# Altium integrated library TI_Logic_Flip-Flop,Latch,Register.IntLib: 2598 symbols (part 70 of 122)
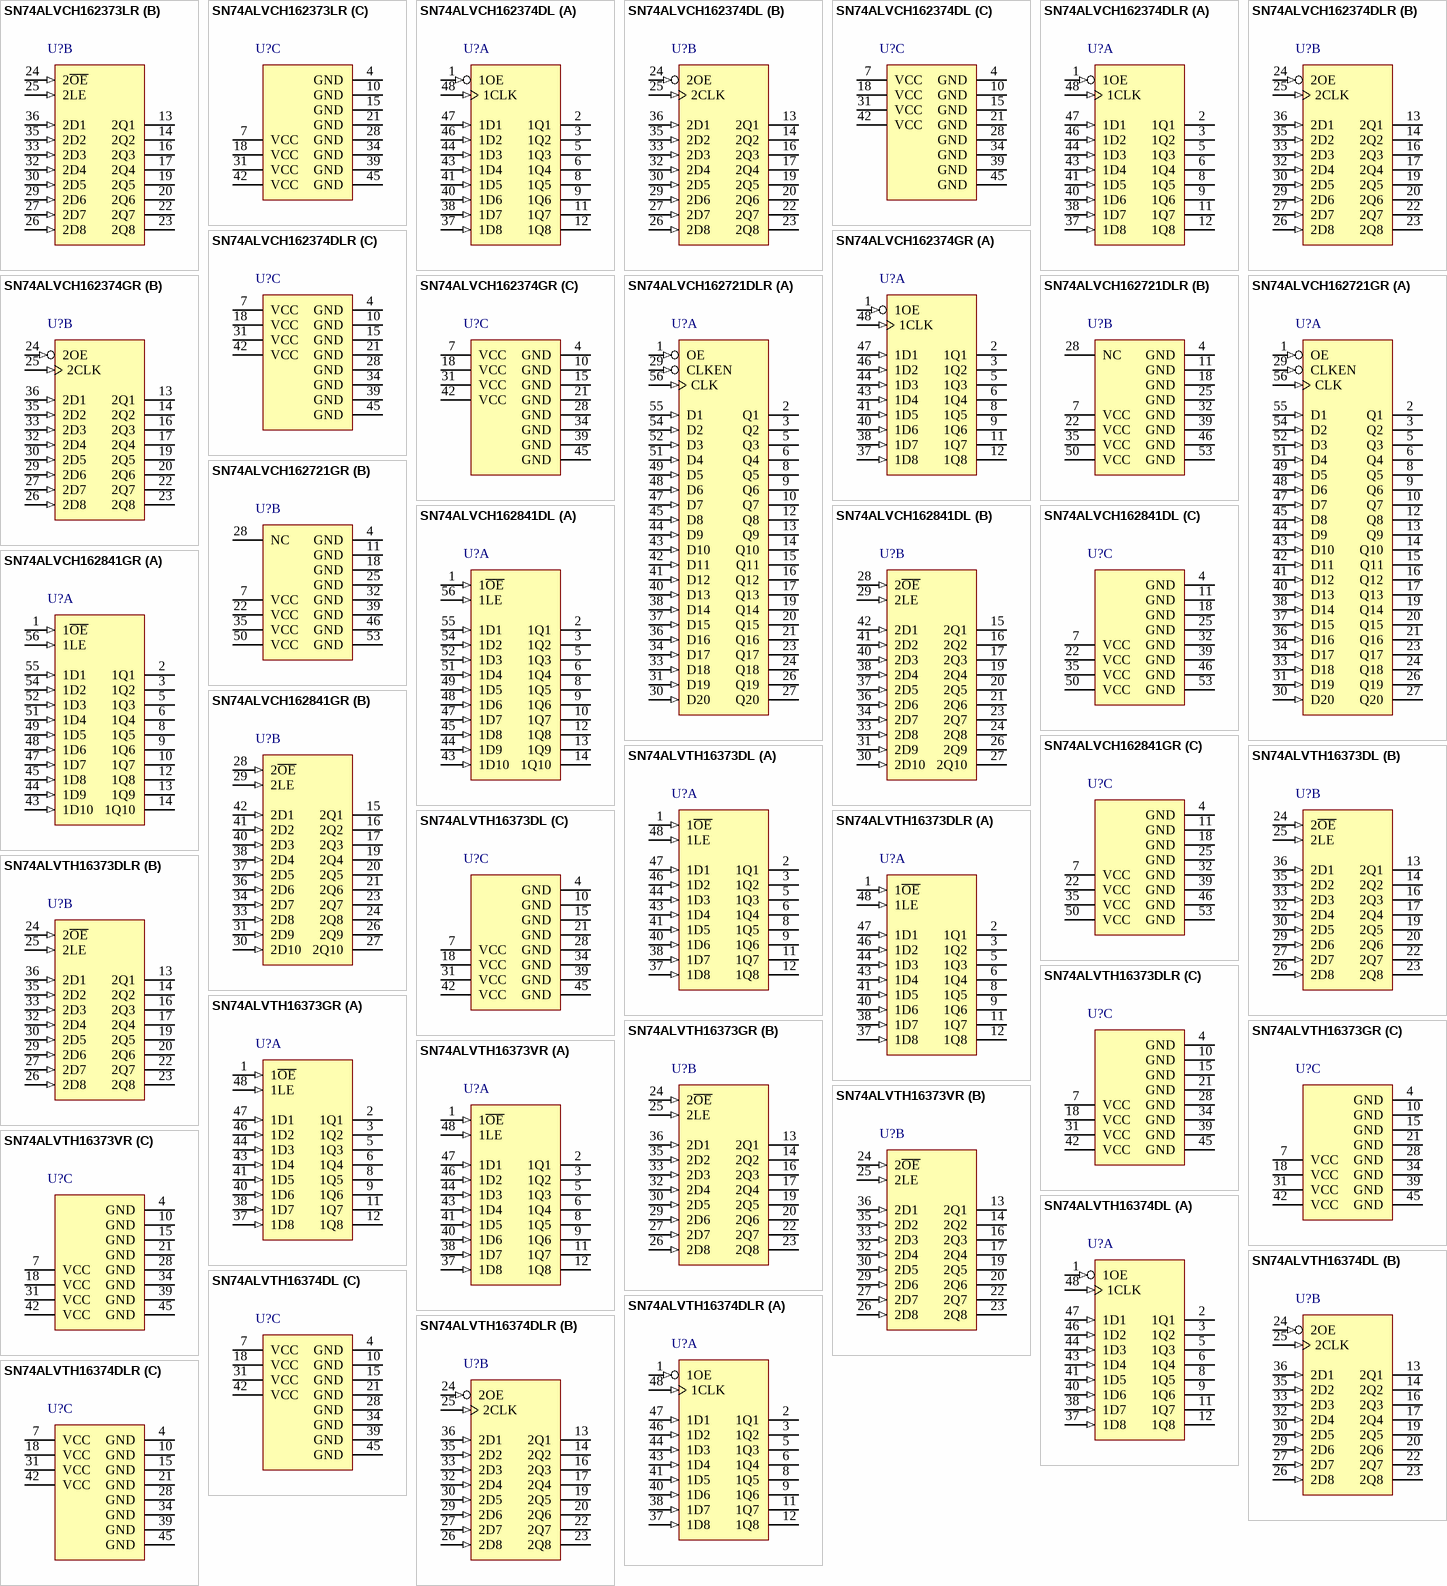
[diagram p208: symbols SN74ALVCH162373LR to SN74ALVTH16374DLR]

## SN74ALVTH16373VR
designator U?
2.5-V/3.3-V 16-Bit Transparent D-Type Latches With 3-State Outputs, DGV0048A, LARGE T&R; Generic Part Number: SN74ALVTH16373; Manufacturer: Texas Instruments; PartNumber: SN74ALVTH16373VR; VCC(Min)(V): 2.3; VCC(Max)(V): 3.6; Output Type: TTL; ICC @ Nom Voltage(Max)(mA): 5; Bits(#): 16; F @ Nom Voltage(Max)(Mhz): 250; Rating: Catalog; Technology Family: ALVT; Voltage(Nom)(V): 2.5,3.3; Schmitt Trigger: No; Output Drive (IOL/IOH)(Max)(mA): 64/-32; Output Logic: Non-inverted; 3-State Output: Yes; tpd @ Nom Voltage(Max)(ns): 3.8,3.3; DatasheetVersion: SCES067F; PackageReference: DGV0048A; Supplier 1: Digi-Key; Supplier Part Number 1: 296-6307-2-ND; Supplier 2: Digi-Key; Supplier Part Number 2: 296-6307-1-ND; Supplier 3: Digi-Key; Supplier Part Number 3: 296-6307-6-ND; Supplier 4: Newark; Supplier Part Number 4: 76C2570; Supplier 5: Mouser; Supplier Part Number 5: 595-SN74ALVTH16373VR; Input Type: TTL; Operating Temperature Range(C): -40 to 85; Code_JEDEC: MO-153; ComponentLink1Description: Manufacturer URL; ComponentLink1URL: http://www.ti.com/; ComponentLink2Description: Datasheet; ComponentLink2URL: http://www.ti.com/lit/ds/symlink/sn74alvth16373.pdf; ComponentLink3Description: Package Specification; ComponentLink3URL: http://www.ti.com/lit/ml/mpds006c/mpds006c.pdf
footprint DGV0048A_N (SOP, 48-Leads, Body 4.5x9.8mm, Pitch 0.4mm, IPC Medium Density)
footprint DGV0048A_M (SOP, 48-Leads, Body 4.5x9.8mm, Pitch 0.4mm, IPC Low Density)
footprint DGV0048A_L (SOP, 48-Leads, Body 4.5x9.8mm, Pitch 0.4mm, IPC High Density)
part A pins: 1 1~{OE} (in) "Output Enable 1", 2 1Q1 (hiz) "1Q1 Output", 3 1Q2 (hiz) "1Q2 Output", 5 1Q3 (hiz) "1Q3 Output", 6 1Q4 (hiz) "1Q4 Output", 8 1Q5 (hiz) "1Q5 Output", 9 1Q6 (hiz) "1Q6 Output", 11 1Q7 (hiz) "1Q7 Output", 12 1Q8 (hiz) "1Q8 Output", 37 1D8 (in) "1D8 Input", 38 1D7 (in) "1D7 Input", 40 1D6 (in) "1D6 Input", 41 1D5 (in) "1D5 Input", 43 1D4 (in) "1D4 Input", 44 1D3 (in) "1D3 Input", 46 1D2 (in) "1D2 Input", 47 1D1 (in) "1D1 Input", 48 1LE (in) "Latch Enable 1"
part B pins: 13 2Q1 (hiz) "2Q1 Output", 14 2Q2 (hiz) "2Q2 Output", 16 2Q3 (hiz) "2Q3 Output", 17 2Q4 (hiz) "2Q4 Output", 19 2Q5 (hiz) "Output", 20 2Q6 (hiz) "2Q6 Output", 22 2Q7 (hiz) "2Q7 Output", 23 2Q8 (hiz) "2Q8 Output", 24 2~{OE} (in) "Output Enable 2", 25 2LE (in) "2LE Input", 26 2D8 (in) "2D8 Input", 27 2D7 (in) "2D7 Input", 29 2D6 (in) "2D6 Input", 30 2D5 (in) "2D5 Input", 32 2D4 (in) "2D4 Input", 33 2D3 (in) "2D3 Input", 35 2D2 (in) "2D2 Input", 36 2D1 (in) "2D1 Input"
part C pins: 4 GND (power) "Ground Pin", 7 VCC (power) "Power Pin", 10 GND (power) "Ground Pin", 15 GND (power) "Ground Pin", 18 VCC (power) "Power Pin", 21 GND (power) "Ground Pin", 28 GND (power) "Ground Pin", 31 VCC (power) "Power Pin", 34 GND (power) "Ground Pin", 39 GND (power) "Ground Pin", 42 VCC (power) "Power Pin", 45 GND (power) "Ground Pin"

## SN74ALVTH16374DL
designator U?
2.5-V/3.3-V 16-Bit Edge-Triggered D-Type Flip-Flops With 3-State Outputs, DL0048A, TUBE; Generic Part Number: SN74ALVTH16374; Manufacturer: Texas Instruments; PartNumber: SN74ALVTH16374DL; VCC(Min)(V): 2.3; VCC(Max)(V): 3.6; Output Type: TTL; ICC @ Nom Voltage(Max)(mA): 5; Bits(#): 16; F @ Nom Voltage(Max)(Mhz): 250; Rating: Catalog; Technology Family: ALVT; Voltage(Nom)(V): 2.5,3.3; Schmitt Trigger: No; Output Drive (IOL/IOH)(Max)(mA): 64/-32; Output Logic: Non-inverted; 3-State Output: Yes; tpd @ Nom Voltage(Max)(ns): 3.8,3.2; DatasheetVersion: SCES068G; PackageReference: DL0048A; Supplier 1: Digi-Key; Supplier Part Number 1: SN74ALVTH16374DL-ND; Supplier 2: Farnell; Supplier Part Number 2: 1741106; Supplier 3: Mouser; Supplier Part Number 3: 595-SN74ALVTH16374DL; Input Type: TTL; Operating Temperature Range(C): -40 to 85; Code_JEDEC: MO-118; ComponentLink1Description: Manufacturer URL; ComponentLink1URL: http://www.ti.com/; ComponentLink2Description: Datasheet; ComponentLink2URL: http://www.ti.com/lit/ds/symlink/sn74alvth16374.pdf; ComponentLink3Description: Package Specification; ComponentLink3URL: http://www.ti.com/lit/ml/mpds490/mpds490.pdf
footprint DL0048A_N (SOP, 48-Leads, Body 7.6x16mm, Pitch 0.635mm, IPC Medium Density)
footprint DL0048A_M (SOP, 48-Leads, Body 7.6x16mm, Pitch 0.635mm, IPC Low Density)
footprint DL0048A_L (SOP, 48-Leads, Body 7.6x16mm, Pitch 0.635mm, IPC High Density)
part A pins: 1 1OE (in), 2 1Q1 (hiz), 3 1Q2 (hiz), 5 1Q3 (hiz), 6 1Q4 (hiz), 8 1Q5 (hiz), 9 1Q6 (hiz), 11 1Q7 (hiz), 12 1Q8 (hiz), 37 1D8 (in), 38 1D7 (in), 40 1D6 (in), 41 1D5 (in), 43 1D4 (in), 44 1D3 (in), 46 1D2 (in), 47 1D1 (in), 48 1CLK (in)
part B pins: 13 2Q1 (hiz), 14 2Q2 (hiz), 16 2Q3 (hiz), 17 2Q4 (hiz), 19 2Q5 (hiz), 20 2Q6 (hiz), 22 2Q7 (hiz), 23 2Q8 (hiz), 24 2OE (in), 25 2CLK (in), 26 2D8 (in), 27 2D7 (in), 29 2D6 (in), 30 2D5 (in), 32 2D4 (in), 33 2D3 (in), 35 2D2 (in), 36 2D1 (in)
part C pins: 4 GND (power), 7 VCC (power), 10 GND (power), 15 GND (power), 18 VCC (power), 21 GND (power), 28 GND (power), 31 VCC (power), 34 GND (power), 39 GND (power), 42 VCC (power), 45 GND (power)

## SN74ALVTH16374DLR
designator U?
2.5-V/3.3-V 16-Bit Edge-Triggered D-Type Flip-Flops With 3-State Outputs, DL0048A, LARGE T&R; Generic Part Number: SN74ALVTH16374; Manufacturer: Texas Instruments; PartNumber: SN74ALVTH16374DLR; VCC(Min)(V): 2.3; VCC(Max)(V): 3.6; Output Type: TTL; ICC @ Nom Voltage(Max)(mA): 5; Bits(#): 16; F @ Nom Voltage(Max)(Mhz): 250; Rating: Catalog; Technology Family: ALVT; Voltage(Nom)(V): 2.5,3.3; Schmitt Trigger: No; Output Drive (IOL/IOH)(Max)(mA): 64/-32; Output Logic: Non-inverted; 3-State Output: Yes; tpd @ Nom Voltage(Max)(ns): 3.8,3.2; DatasheetVersion: SCES068G; PackageReference: DL0048A; Supplier 1: Digi-Key; Supplier Part Number 1: 296-6308-2-ND; Supplier 2: Digi-Key; Supplier Part Number 2: 296-6308-1-ND; Supplier 3: Digi-Key; Supplier Part Number 3: 296-6308-6-ND; Supplier 4: Mouser; Supplier Part Number 4: 595-SNALVTH16374DLR; Input Type: TTL; Operating Temperature Range(C): -40 to 85; Code_JEDEC: MO-118; ComponentLink1Description: Manufacturer URL; ComponentLink1URL: http://www.ti.com/; ComponentLink2Description: Datasheet; ComponentLink2URL: http://www.ti.com/lit/ds/symlink/sn74alvth16374.pdf; ComponentLink3Description: Package Specification; ComponentLink3URL: http://www.ti.com/lit/ml/mpds490/mpds490.pdf
footprint DL0048A_N (SOP, 48-Leads, Body 7.6x16mm, Pitch 0.635mm, IPC Medium Density)
footprint DL0048A_M (SOP, 48-Leads, Body 7.6x16mm, Pitch 0.635mm, IPC Low Density)
footprint DL0048A_L (SOP, 48-Leads, Body 7.6x16mm, Pitch 0.635mm, IPC High Density)
part A pins: 1 1OE (in), 2 1Q1 (hiz), 3 1Q2 (hiz), 5 1Q3 (hiz), 6 1Q4 (hiz), 8 1Q5 (hiz), 9 1Q6 (hiz), 11 1Q7 (hiz), 12 1Q8 (hiz), 37 1D8 (in), 38 1D7 (in), 40 1D6 (in), 41 1D5 (in), 43 1D4 (in), 44 1D3 (in), 46 1D2 (in), 47 1D1 (in), 48 1CLK (in)
part B pins: 13 2Q1 (hiz), 14 2Q2 (hiz), 16 2Q3 (hiz), 17 2Q4 (hiz), 19 2Q5 (hiz), 20 2Q6 (hiz), 22 2Q7 (hiz), 23 2Q8 (hiz), 24 2OE (in), 25 2CLK (in), 26 2D8 (in), 27 2D7 (in), 29 2D6 (in), 30 2D5 (in), 32 2D4 (in), 33 2D3 (in), 35 2D2 (in), 36 2D1 (in)
part C pins: 4 GND (power), 7 VCC (power), 10 GND (power), 15 GND (power), 18 VCC (power), 21 GND (power), 28 GND (power), 31 VCC (power), 34 GND (power), 39 GND (power), 42 VCC (power), 45 GND (power)

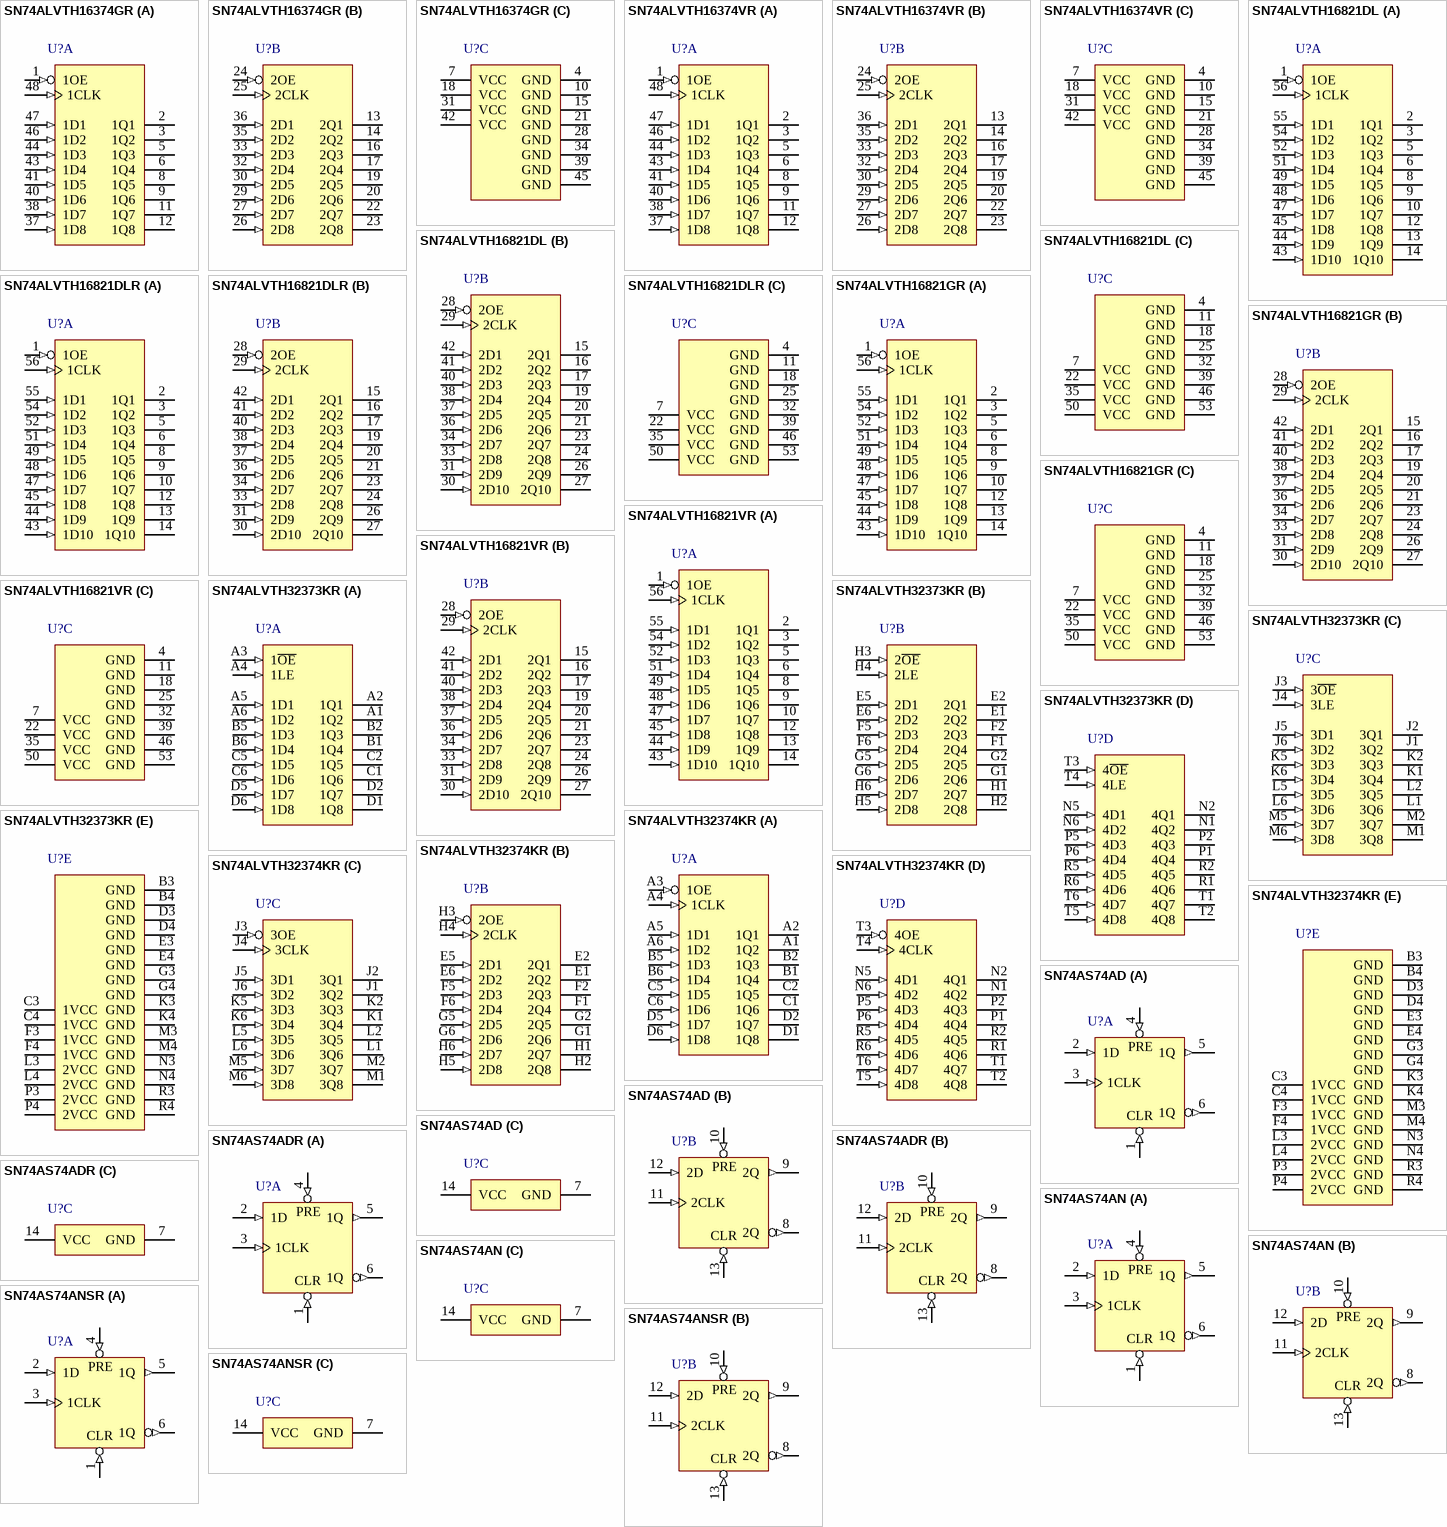
[diagram p81: symbols SN74ALVTH16374GR to SN74AS74ANSR]

## SN74ALVTH16374GR
designator U?
2.5-V/3.3-V 16-Bit Edge-Triggered D-Type Flip-Flops With 3-State Outputs, DGG0048A, LARGE T&R; Generic Part Number: SN74ALVTH16374; Manufacturer: Texas Instruments; PartNumber: SN74ALVTH16374GR; VCC(Min)(V): 2.3; VCC(Max)(V): 3.6; Output Type: TTL; ICC @ Nom Voltage(Max)(mA): 5; Bits(#): 16; F @ Nom Voltage(Max)(Mhz): 250; Rating: Catalog; Technology Family: ALVT; Voltage(Nom)(V): 2.5,3.3; Schmitt Trigger: No; Output Drive (IOL/IOH)(Max)(mA): 64/-32; Output Logic: Non-inverted; 3-State Output: Yes; tpd @ Nom Voltage(Max)(ns): 3.8,3.2; DatasheetVersion: SCES068G; PackageReference: DGG0048A; Supplier 1: Digi-Key; Supplier Part Number 1: 296-6309-2-ND; Supplier 2: Digi-Key; Supplier Part Number 2: 296-6309-1-ND; Supplier 3: Digi-Key; Supplier Part Number 3: 296-6309-6-ND; Supplier 4: Mouser; Supplier Part Number 4: 595-SN74ALVTH16374GR; Input Type: TTL; Operating Temperature Range(C): -40 to 85; Code_JEDEC: MO-153; ComponentLink1Description: Manufacturer URL; ComponentLink1URL: http://www.ti.com/; ComponentLink2Description: Datasheet; ComponentLink2URL: http://www.ti.com/lit/ds/symlink/sn74alvth16374.pdf; ComponentLink3Description: Package Specification; ComponentLink3URL: http://www.ti.com/lit/ml/mtss003d/mtss003d.pdf
footprint DGG0048A_N (TSSOP, 48-Leads, Body 12.6x6.2mm, Pitch 0.5mm, IPC Medium Density)
footprint DGG0048A_M (TSSOP, 48-Leads, Body 12.6x6.2mm, Pitch 0.5mm, IPC Low Density)
footprint DGG0048A_L (TSSOP, 48-Leads, Body 12.6x6.2mm, Pitch 0.5mm, IPC High Density)
part A pins: 1 1OE (in), 2 1Q1 (hiz), 3 1Q2 (hiz), 5 1Q3 (hiz), 6 1Q4 (hiz), 8 1Q5 (hiz), 9 1Q6 (hiz), 11 1Q7 (hiz), 12 1Q8 (hiz), 37 1D8 (in), 38 1D7 (in), 40 1D6 (in), 41 1D5 (in), 43 1D4 (in), 44 1D3 (in), 46 1D2 (in), 47 1D1 (in), 48 1CLK (in)
part B pins: 13 2Q1 (hiz), 14 2Q2 (hiz), 16 2Q3 (hiz), 17 2Q4 (hiz), 19 2Q5 (hiz), 20 2Q6 (hiz), 22 2Q7 (hiz), 23 2Q8 (hiz), 24 2OE (in), 25 2CLK (in), 26 2D8 (in), 27 2D7 (in), 29 2D6 (in), 30 2D5 (in), 32 2D4 (in), 33 2D3 (in), 35 2D2 (in), 36 2D1 (in)
part C pins: 4 GND (power), 7 VCC (power), 10 GND (power), 15 GND (power), 18 VCC (power), 21 GND (power), 28 GND (power), 31 VCC (power), 34 GND (power), 39 GND (power), 42 VCC (power), 45 GND (power)

## SN74ALVTH16374VR
designator U?
2.5-V/3.3-V 16-Bit Edge-Triggered D-Type Flip-Flops With 3-State Outputs, DGV0048A, LARGE T&R; Generic Part Number: SN74ALVTH16374; Manufacturer: Texas Instruments; PartNumber: SN74ALVTH16374VR; VCC(Min)(V): 2.3; VCC(Max)(V): 3.6; Output Type: TTL; ICC @ Nom Voltage(Max)(mA): 5; Bits(#): 16; F @ Nom Voltage(Max)(Mhz): 250; Rating: Catalog; Technology Family: ALVT; Voltage(Nom)(V): 2.5,3.3; Schmitt Trigger: No; Output Drive (IOL/IOH)(Max)(mA): 64/-32; Output Logic: Non-inverted; 3-State Output: Yes; tpd @ Nom Voltage(Max)(ns): 3.8,3.2; DatasheetVersion: SCES068G; PackageReference: DGV0048A; Supplier 1: Digi-Key; Supplier Part Number 1: 296-6311-2-ND; Supplier 2: Digi-Key; Supplier Part Number 2: 296-6311-1-ND; Supplier 3: Digi-Key; Supplier Part Number 3: 296-6311-6-ND; Supplier 4: Newark; Supplier Part Number 4: 76C2574; Supplier 5: Mouser; Supplier Part Number 5: 595-SN74ALVTH16374VR; Input Type: TTL; Operating Temperature Range(C): -40 to 85; Code_JEDEC: MO-153; ComponentLink1Description: Manufacturer URL; ComponentLink1URL: http://www.ti.com/; ComponentLink2Description: Datasheet; ComponentLink2URL: http://www.ti.com/lit/ds/symlink/sn74alvth16374.pdf; ComponentLink3Description: Package Specification; ComponentLink3URL: http://www.ti.com/lit/ml/mpds006c/mpds006c.pdf
footprint DGV0048A_N (SOP, 48-Leads, Body 4.5x9.8mm, Pitch 0.4mm, IPC Medium Density)
footprint DGV0048A_M (SOP, 48-Leads, Body 4.5x9.8mm, Pitch 0.4mm, IPC Low Density)
footprint DGV0048A_L (SOP, 48-Leads, Body 4.5x9.8mm, Pitch 0.4mm, IPC High Density)
part A pins: 1 1OE (in), 2 1Q1 (hiz), 3 1Q2 (hiz), 5 1Q3 (hiz), 6 1Q4 (hiz), 8 1Q5 (hiz), 9 1Q6 (hiz), 11 1Q7 (hiz), 12 1Q8 (hiz), 37 1D8 (in), 38 1D7 (in), 40 1D6 (in), 41 1D5 (in), 43 1D4 (in), 44 1D3 (in), 46 1D2 (in), 47 1D1 (in), 48 1CLK (in)
part B pins: 13 2Q1 (hiz), 14 2Q2 (hiz), 16 2Q3 (hiz), 17 2Q4 (hiz), 19 2Q5 (hiz), 20 2Q6 (hiz), 22 2Q7 (hiz), 23 2Q8 (hiz), 24 2OE (in), 25 2CLK (in), 26 2D8 (in), 27 2D7 (in), 29 2D6 (in), 30 2D5 (in), 32 2D4 (in), 33 2D3 (in), 35 2D2 (in), 36 2D1 (in)
part C pins: 4 GND (power), 7 VCC (power), 10 GND (power), 15 GND (power), 18 VCC (power), 21 GND (power), 28 GND (power), 31 VCC (power), 34 GND (power), 39 GND (power), 42 VCC (power), 45 GND (power)

## SN74ALVTH16821DL
designator U?
2.5-V/3.3-V 20-Bit Bus-Interface Flip-Flops With 3-State Outputs, DL0056A, TUBE; Generic Part Number: SN74ALVTH16821; Manufacturer: Texas Instruments; PartNumber: SN74ALVTH16821DL; VCC(Min)(V): 2.3; VCC(Max)(V): 3.6; Output Type: TTL; ICC @ Nom Voltage(Max)(mA): 5; Bits(#): 20; F @ Nom Voltage(Max)(Mhz): 250; Rating: Catalog; Technology Family: ALVT; Voltage(Nom)(V): 2.5,3.3; Schmitt Trigger: No; Output Drive (IOL/IOH)(Max)(mA): 64/-32; Output Logic: Non-inverted; 3-State Output: Yes; tpd @ Nom Voltage(Max)(ns): 4.1,3.5; DatasheetVersion: SCES078E; PackageReference: DL0056A; Supplier 1: Digi-Key; Supplier Part Number 1: 296-1520-5-ND; Supplier 2: Mouser; Supplier Part Number 2: 595-SN74ALVTH16821DL; Input Type: TTL; Operating Temperature Range(C): -40 to 85; Code_JEDEC: MO-118; ComponentLink1Description: Manufacturer URL; ComponentLink1URL: http://www.ti.com/; ComponentLink2Description: Datasheet; ComponentLink2URL: http://www.ti.com/lit/ds/symlink/sn74alvth16821.pdf; ComponentLink3Description: Package Specification; ComponentLink3URL: http://www.ti.com/lit/ml/mpds491/mpds491.pdf
footprint DL0056A_N (SOP, 56-Leads, Body 7.6x18.5mm, Pitch 0.635mm, IPC Medium Density)
footprint DL0056A_M (SOP, 56-Leads, Body 7.6x18.5mm, Pitch 0.635mm, IPC Low Density)
footprint DL0056A_L (SOP, 56-Leads, Body 7.6x18.5mm, Pitch 0.635mm, IPC High Density)
part A pins: 1 1OE (in), 2 1Q1 (hiz), 3 1Q2 (hiz), 5 1Q3 (hiz), 6 1Q4 (hiz), 8 1Q5 (hiz), 9 1Q6 (hiz), 10 1Q7 (hiz), 12 1Q8 (hiz), 13 1Q9 (hiz), 14 1Q10 (hiz), 43 1D10 (in), 44 1D9 (in), 45 1D8 (in), 47 1D7 (in), 48 1D6 (in), 49 1D5 (in), 51 1D4 (in), 52 1D3 (in), 54 1D2 (in), 55 1D1 (in), 56 1CLK (in)
part B pins: 15 2Q1 (hiz), 16 2Q2 (hiz), 17 2Q3 (hiz), 19 2Q4 (hiz), 20 2Q5 (hiz), 21 2Q6 (hiz), 23 2Q7 (hiz), 24 2Q8 (hiz), 26 2Q9 (hiz), 27 2Q10 (hiz), 28 2OE (in), 29 2CLK (in), 30 2D10 (in), 31 2D9 (in), 33 2D8 (in), 34 2D7 (in), 36 2D6 (in), 37 2D5 (in), 38 2D4 (in), 40 2D3 (in), 41 2D2 (in), 42 2D1 (in)
part C pins: 4 GND (power), 7 VCC (power), 11 GND (power), 18 GND (power), 22 VCC (power), 25 GND (power), 32 GND (power), 35 VCC (power), 39 GND (power), 46 GND (power), 50 VCC (power), 53 GND (power)

## SN74ALVTH16821DLR
designator U?
2.5-V/3.3-V 20-Bit Bus-Interface Flip-Flops With 3-State Outputs, DL0056A, LARGE T&R; Generic Part Number: SN74ALVTH16821; Manufacturer: Texas Instruments; PartNumber: SN74ALVTH16821DLR; VCC(Min)(V): 2.3; VCC(Max)(V): 3.6; Output Type: TTL; ICC @ Nom Voltage(Max)(mA): 5; Bits(#): 20; F @ Nom Voltage(Max)(Mhz): 250; Rating: Catalog; Technology Family: ALVT; Voltage(Nom)(V): 2.5,3.3; Schmitt Trigger: No; Output Drive (IOL/IOH)(Max)(mA): 64/-32; Output Logic: Non-inverted; 3-State Output: Yes; tpd @ Nom Voltage(Max)(ns): 4.1,3.5; DatasheetVersion: SCES078E; PackageReference: DL0056A; Supplier 1: Digi-Key; Supplier Part Number 1: 296-1520-2-ND; Supplier 2: Digi-Key; Supplier Part Number 2: 296-1520-1-ND; Supplier 3: Digi-Key; Supplier Part Number 3: 296-1520-6-ND; Supplier 4: Mouser; Supplier Part Number 4: 595-74ALVTH16821DLR; Input Type: TTL; Operating Temperature Range(C): -40 to 85; Code_JEDEC: MO-118; ComponentLink1Description: Manufacturer URL; ComponentLink1URL: http://www.ti.com/; ComponentLink2Description: Datasheet; ComponentLink2URL: http://www.ti.com/lit/ds/symlink/sn74alvth16821.pdf; ComponentLink3Description: Package Specification; ComponentLink3URL: http://www.ti.com/lit/ml/mpds491/mpds491.pdf
footprint DL0056A_N (SOP, 56-Leads, Body 7.6x18.5mm, Pitch 0.635mm, IPC Medium Density)
footprint DL0056A_M (SOP, 56-Leads, Body 7.6x18.5mm, Pitch 0.635mm, IPC Low Density)
footprint DL0056A_L (SOP, 56-Leads, Body 7.6x18.5mm, Pitch 0.635mm, IPC High Density)
part A pins: 1 1OE (in), 2 1Q1 (hiz), 3 1Q2 (hiz), 5 1Q3 (hiz), 6 1Q4 (hiz), 8 1Q5 (hiz), 9 1Q6 (hiz), 10 1Q7 (hiz), 12 1Q8 (hiz), 13 1Q9 (hiz), 14 1Q10 (hiz), 43 1D10 (in), 44 1D9 (in), 45 1D8 (in), 47 1D7 (in), 48 1D6 (in), 49 1D5 (in), 51 1D4 (in), 52 1D3 (in), 54 1D2 (in), 55 1D1 (in), 56 1CLK (in)
part B pins: 15 2Q1 (hiz), 16 2Q2 (hiz), 17 2Q3 (hiz), 19 2Q4 (hiz), 20 2Q5 (hiz), 21 2Q6 (hiz), 23 2Q7 (hiz), 24 2Q8 (hiz), 26 2Q9 (hiz), 27 2Q10 (hiz), 28 2OE (in), 29 2CLK (in), 30 2D10 (in), 31 2D9 (in), 33 2D8 (in), 34 2D7 (in), 36 2D6 (in), 37 2D5 (in), 38 2D4 (in), 40 2D3 (in), 41 2D2 (in), 42 2D1 (in)
part C pins: 4 GND (power), 7 VCC (power), 11 GND (power), 18 GND (power), 22 VCC (power), 25 GND (power), 32 GND (power), 35 VCC (power), 39 GND (power), 46 GND (power), 50 VCC (power), 53 GND (power)

## SN74ALVTH16821GR
designator U?
2.5-V/3.3-V 20-Bit Bus-Interface Flip-Flops With 3-State Outputs, DGG0056A, LARGE T&R; Generic Part Number: SN74ALVTH16821; Manufacturer: Texas Instruments; PartNumber: SN74ALVTH16821GR; VCC(Min)(V): 2.3; VCC(Max)(V): 3.6; Output Type: TTL; ICC @ Nom Voltage(Max)(mA): 5; Bits(#): 20; F @ Nom Voltage(Max)(Mhz): 250; Rating: Catalog; Technology Family: ALVT; Voltage(Nom)(V): 2.5,3.3; Schmitt Trigger: No; Output Drive (IOL/IOH)(Max)(mA): 64/-32; Output Logic: Non-inverted; 3-State Output: Yes; tpd @ Nom Voltage(Max)(ns): 4.1,3.5; DatasheetVersion: SCES078E; PackageReference: DGG0056A; Supplier 1: Digi-Key; Supplier Part Number 1: 296-6315-2-ND; Supplier 2: Digi-Key; Supplier Part Number 2: 296-6315-1-ND; Supplier 3: Digi-Key; Supplier Part Number 3: 296-6315-6-ND; Supplier 4: Mouser; Supplier Part Number 4: 595-SN74ALVTH16821GR; Input Type: TTL; Operating Temperature Range(C): -40 to 85; Code_JEDEC: MO-153; ComponentLink1Description: Manufacturer URL; ComponentLink1URL: http://www.ti.com/; ComponentLink2Description: Datasheet; ComponentLink2URL: http://www.ti.com/lit/ds/symlink/sn74alvth16821.pdf; ComponentLink3Description: Package Specification; ComponentLink3URL: http://www.ti.com/lit/ml/mtss003d/mtss003d.pdf
footprint DGG0056A_N (TSSOP, 56-Leads, Body 14.1x6.2mm, Pitch 0.5mm, IPC Medium Density)
footprint DGG0056A_M (TSSOP, 56-Leads, Body 14.1x6.2mm, Pitch 0.5mm, IPC Low Density)
footprint DGG0056A_L (TSSOP, 56-Leads, Body 14.1x6.2mm, Pitch 0.5mm, IPC High Density)
part A pins: 1 1OE (in), 2 1Q1 (hiz), 3 1Q2 (hiz), 5 1Q3 (hiz), 6 1Q4 (hiz), 8 1Q5 (hiz), 9 1Q6 (hiz), 10 1Q7 (hiz), 12 1Q8 (hiz), 13 1Q9 (hiz), 14 1Q10 (hiz), 43 1D10 (in), 44 1D9 (in), 45 1D8 (in), 47 1D7 (in), 48 1D6 (in), 49 1D5 (in), 51 1D4 (in), 52 1D3 (in), 54 1D2 (in), 55 1D1 (in), 56 1CLK (in)
part B pins: 15 2Q1 (hiz), 16 2Q2 (hiz), 17 2Q3 (hiz), 19 2Q4 (hiz), 20 2Q5 (hiz), 21 2Q6 (hiz), 23 2Q7 (hiz), 24 2Q8 (hiz), 26 2Q9 (hiz), 27 2Q10 (hiz), 28 2OE (in), 29 2CLK (in), 30 2D10 (in), 31 2D9 (in), 33 2D8 (in), 34 2D7 (in), 36 2D6 (in), 37 2D5 (in), 38 2D4 (in), 40 2D3 (in), 41 2D2 (in), 42 2D1 (in)
part C pins: 4 GND (power), 7 VCC (power), 11 GND (power), 18 GND (power), 22 VCC (power), 25 GND (power), 32 GND (power), 35 VCC (power), 39 GND (power), 46 GND (power), 50 VCC (power), 53 GND (power)

## SN74ALVTH16821VR
designator U?
2.5-V/3.3-V 20-Bit Bus-Interface Flip-Flops With 3-State Outputs, DGV0056A, LARGE T&R; Generic Part Number: SN74ALVTH16821; Manufacturer: Texas Instruments; PartNumber: SN74ALVTH16821VR; VCC(Min)(V): 2.3; VCC(Max)(V): 3.6; Output Type: TTL; ICC @ Nom Voltage(Max)(mA): 5; Bits(#): 20; F @ Nom Voltage(Max)(Mhz): 250; Rating: Catalog; Technology Family: ALVT; Voltage(Nom)(V): 2.5,3.3; Schmitt Trigger: No; Output Drive (IOL/IOH)(Max)(mA): 64/-32; Output Logic: Non-inverted; 3-State Output: Yes; tpd @ Nom Voltage(Max)(ns): 4.1,3.5; DatasheetVersion: SCES078E; PackageReference: DGV0056A; Supplier 1: Digi-Key; Supplier Part Number 1: 296-6316-2-ND; Supplier 2: Digi-Key; Supplier Part Number 2: 296-6316-1-ND; Supplier 3: Digi-Key; Supplier Part Number 3: 296-6316-6-ND; Supplier 4: Mouser; Supplier Part Number 4: 595-SN74ALVTH16821VR; Input Type: TTL; Operating Temperature Range(C): -40 to 85; Code_JEDEC: MO-194; ComponentLink1Description: Manufacturer URL; ComponentLink1URL: http://www.ti.com/; ComponentLink2Description: Datasheet; ComponentLink2URL: http://www.ti.com/lit/ds/symlink/sn74alvth16821.pdf; ComponentLink3Description: Package Specification; ComponentLink3URL: http://www.ti.com/lit/ml/mpds006c/mpds006c.pdf
footprint DGV0056A_N (SOP, 56-Leads, Body 4.5x11.4mm, Pitch 0.4mm, IPC Medium Density)
footprint DGV0056A_M (SOP, 56-Leads, Body 4.5x11.4mm, Pitch 0.4mm, IPC Low Density)
footprint DGV0056A_L (SOP, 56-Leads, Body 4.5x11.4mm, Pitch 0.4mm, IPC High Density)
part A pins: 1 1OE (in), 2 1Q1 (hiz), 3 1Q2 (hiz), 5 1Q3 (hiz), 6 1Q4 (hiz), 8 1Q5 (hiz), 9 1Q6 (hiz), 10 1Q7 (hiz), 12 1Q8 (hiz), 13 1Q9 (hiz), 14 1Q10 (hiz), 43 1D10 (in), 44 1D9 (in), 45 1D8 (in), 47 1D7 (in), 48 1D6 (in), 49 1D5 (in), 51 1D4 (in), 52 1D3 (in), 54 1D2 (in), 55 1D1 (in), 56 1CLK (in)
part B pins: 15 2Q1 (hiz), 16 2Q2 (hiz), 17 2Q3 (hiz), 19 2Q4 (hiz), 20 2Q5 (hiz), 21 2Q6 (hiz), 23 2Q7 (hiz), 24 2Q8 (hiz), 26 2Q9 (hiz), 27 2Q10 (hiz), 28 2OE (in), 29 2CLK (in), 30 2D10 (in), 31 2D9 (in), 33 2D8 (in), 34 2D7 (in), 36 2D6 (in), 37 2D5 (in), 38 2D4 (in), 40 2D3 (in), 41 2D2 (in), 42 2D1 (in)
part C pins: 4 GND (power), 7 VCC (power), 11 GND (power), 18 GND (power), 22 VCC (power), 25 GND (power), 32 GND (power), 35 VCC (power), 39 GND (power), 46 GND (power), 50 VCC (power), 53 GND (power)

## SN74ALVTH32373KR
designator U?
2.5-V/3.3-V 32-Bit Transparent D-Type Latches With 3-State Outputs, GKE0096A, LARGE T&R; Generic Part Number: SN74ALVTH32373; Manufacturer: Texas Instruments; PartNumber: SN74ALVTH32373KR; VCC(Min)(V): 2.3; VCC(Max)(V): 3.6; Output Type: TTL; Logic: True; Static Current: 5; Bits(#): 32; F @ Nom Voltage(Max)(Mhz): 250; Rating: Catalog; Technology Family: ALVT; Voltage(Nom)(V): 2.5,3.3; Schmitt Trigger: No; Output Drive (IOL/IOH)(Max)(mA): 64/-32; Output Logic: Non-inverted; 3-State Output: Yes; tpd @ Nom Voltage(Max)(ns): 3.8,3.3; DatasheetVersion: SCES322A; PackageReference: GKE0096A; Supplier 1: Digi-Key; Supplier Part Number 1: 296-6321-2-ND; Supplier 2: Digi-Key; Supplier Part Number 2: 296-6321-1-ND; Supplier 3: Mouser; Supplier Part Number 3: 595-SN74ALVTH32373KR; ICC @ Nom Voltage(Max)(mA): 5; Input Type: TTL; Operating Temperature Range(C): -40 to 85; Code_JEDEC: MO-205; ComponentLink1Description: Manufacturer URL; ComponentLink1URL: http://www.ti.com/; ComponentLink2Description: Datasheet; ComponentLink2URL: http://www.ti.com/lit/ds/symlink/sn74alvth32373.pdf; ComponentLink3Description: Package Specification; ComponentLink3URL: http://www.ti.com/lit/ml/mpbg095d/mpbg095d.pdf
footprint GKE0096A (BGA, 96-Balls, Body 13.5x5.5mm, Pitch 0.8mm)
part A pins: A1 1Q2 (hiz), A2 1Q1 (hiz), A3 1~{OE} (in), A4 1LE (in), A5 1D1 (in), A6 1D2 (in), B1 1Q4 (hiz), B2 1Q3 (hiz), B5 1D3 (in), B6 1D4 (in), C1 1Q6 (hiz), C2 1Q5 (hiz), C5 1D5 (in), C6 1D6 (in), D1 1Q8 (hiz), D2 1Q7 (hiz), D5 1D7 (in), D6 1D8 (in)
part B pins: E1 2Q2 (hiz), E2 2Q1 (hiz), E5 2D1 (in), E6 2D2 (in), F1 2Q4 (hiz), F2 2Q3 (hiz), F5 2D3 (in), F6 2D4 (in), G1 2Q6 (hiz), G2 2Q5 (hiz), G5 2D5 (in), G6 2D6 (in), H1 2Q7 (hiz), H2 2Q8 (hiz), H3 2~{OE} (in), H4 2LE (in), H5 2D8 (in), H6 2D7 (in)
part C pins: J1 3Q2 (hiz), J2 3Q1 (hiz), J3 3~{OE} (in), J4 3LE (in), J5 3D1 (in), J6 3D2 (in), K1 3Q4 (hiz), K2 3Q3 (hiz), K5 3D3 (in), K6 3D4 (in), L1 3Q6 (hiz), L2 3Q5 (hiz), L5 3D5 (in), L6 3D6 (in), M1 3Q8 (hiz), M2 3Q7 (hiz), M5 3D7 (in), M6 3D8 (in)
part D pins: N1 4Q2 (hiz), N2 4Q1 (hiz), N5 4D1 (in), N6 4D2 (in), P1 4Q4 (hiz), P2 4Q3 (hiz), P5 4D3 (in), P6 4D4 (in), R1 4Q6 (hiz), R2 4Q5 (hiz), R5 4D5 (in), R6 4D6 (in), T1 4Q7 (hiz), T2 4Q8 (hiz), T3 4~{OE} (in), T4 4LE (in), T5 4D8 (in), T6 4D7 (in)
part E pins: B3 GND (power), B4 GND (power), C3 1VCC (power), C4 1VCC (power), D3 GND (power), D4 GND (power), E3 GND (power), E4 GND (power), F3 1VCC (power), F4 1VCC (power), G3 GND (power), G4 GND (power), K3 GND (power), K4 GND (power), L3 2VCC (power), L4 2VCC (power), M3 GND (power), M4 GND (power), N3 GND (power), N4 GND (power), P3 2VCC (power), P4 2VCC (power), R3 GND (power), R4 GND (power)

## SN74ALVTH32374KR
designator U?
2.5-V/3.3-V 32-Bit Edge-Triggered D-Type Flip-Flops With 3-State Outputs, GKE0096A, LARGE T&R; Generic Part Number: SN74ALVTH32374; Manufacturer: Texas Instruments; PartNumber: SN74ALVTH32374KR; DatasheetVersion: SCES280; PackageReference: GKE0096A; Supplier 1: Digi-Key; Supplier Part Number 1: 296-6322-2-ND; Supplier 2: Digi-Key; Supplier Part Number 2: 296-6322-1-ND; Supplier 3: Digi-Key; Supplier Part Number 3: 296-6322-6-ND; Supplier 4: Newark; Supplier Part Number 4: 76C2581; Supplier 5: Mouser; Supplier Part Number 5: 595-SN74ALVTH32374KR; Code_JEDEC: MO-205; ComponentLink1Description: Manufacturer URL; ComponentLink1URL: http://www.ti.com/; ComponentLink2Description: Datasheet; ComponentLink2URL: http://www.ti.com/lit/ds/symlink/sn74alvth32374.pdf; ComponentLink3Description: Package Specification; ComponentLink3URL: http://www.ti.com/lit/ml/mpbg095d/mpbg095d.pdf
footprint GKE0096A (BGA, 96-Balls, Body 13.5x5.5mm, Pitch 0.8mm)
part A pins: A1 1Q2 (hiz), A2 1Q1 (hiz), A3 1OE (in), A4 1CLK (in), A5 1D1 (in), A6 1D2 (in), B1 1Q4 (hiz), B2 1Q3 (hiz), B5 1D3 (in), B6 1D4 (in), C1 1Q6 (hiz), C2 1Q5 (hiz), C5 1D5 (in), C6 1D6 (in), D1 1Q8 (hiz), D2 1Q7 (hiz), D5 1D7 (in), D6 1D8 (in)
part B pins: E1 2Q2 (hiz), E2 2Q1 (hiz), E5 2D1 (in), E6 2D2 (in), F1 2Q4 (hiz), F2 2Q3 (hiz), F5 2D3 (in), F6 2D4 (in), G1 2Q6 (hiz), G2 2Q5 (hiz), G5 2D5 (in), G6 2D6 (in), H1 2Q7 (hiz), H2 2Q8 (hiz), H3 2OE (in), H4 2CLK (in), H5 2D8 (in), H6 2D7 (in)
part C pins: J1 3Q2 (hiz), J2 3Q1 (hiz), J3 3OE (in), J4 3CLK (in), J5 3D1 (in), J6 3D2 (in), K1 3Q4 (hiz), K2 3Q3 (hiz), K5 3D3 (in), K6 3D4 (in), L1 3Q6 (hiz), L2 3Q5 (hiz), L5 3D5 (in), L6 3D6 (in), M1 3Q8 (hiz), M2 3Q7 (hiz), M5 3D7 (in), M6 3D8 (in)
part D pins: N1 4Q2 (hiz), N2 4Q1 (hiz), N5 4D1 (in), N6 4D2 (in), P1 4Q4 (hiz), P2 4Q3 (hiz), P5 4D3 (in), P6 4D4 (in), R1 4Q6 (hiz), R2 4Q5 (hiz), R5 4D5 (in), R6 4D6 (in), T1 4Q7 (hiz), T2 4Q8 (hiz), T3 4OE (in), T4 4CLK (in), T5 4D8 (in), T6 4D7 (in)
part E pins: B3 GND (power), B4 GND (power), C3 1VCC (power), C4 1VCC (power), D3 GND (power), D4 GND (power), E3 GND (power), E4 GND (power), F3 1VCC (power), F4 1VCC (power), G3 GND (power), G4 GND (power), K3 GND (power), K4 GND (power), L3 2VCC (power), L4 2VCC (power), M3 GND (power), M4 GND (power), N3 GND (power), N4 GND (power), P3 2VCC (power), P4 2VCC (power), R3 GND (power), R4 GND (power)

## SN74AS74AD
designator U?
Dual Positive-Edge-Triggered D-Type Flip-Flops With Preset And Clear, D0014A, TUBE; Generic Part Number: SN74AS74A; Manufacturer: Texas Instruments; PartNumber: SN74AS74AD; VCC(Min)(V): 4.5; VCC(Max)(V): 5.5; Output Type: TTL; Output: 3S; ICC @ Nom Voltage(Max)(mA): 16; Bits(#): 2; F @ Nom Voltage(Max)(Mhz): 125; Rating: Catalog; Technology Family: AS; Voltage(Nom)(V): 5; Schmitt Trigger: No; Output Drive (IOL/IOH)(Max)(mA): 20/-2; Output Logic: Inverted,Non-inverted; tpd @ Nom Voltage(Max)(ns): 9; DatasheetVersion: SDAS143C; PackageReference: D0014A; Supplier 1: Digi-Key; Supplier Part Number 1: 296-6370-5-ND; Supplier 2: Farnell; Supplier Part Number 2: 1750006; Supplier 3: Newark; Supplier Part Number 3: 50R6194; Supplier 4: Mouser; Supplier Part Number 4: 595-SN74AS74AD; Input Type: TTL; Operating Temperature Range(C): 0 to 70; 3-State Output: No; Code_JEDEC: MS-012; ComponentLink1Description: Manufacturer URL; ComponentLink1URL: http://www.ti.com/; ComponentLink2Description: Datasheet; ComponentLink2URL: http://www.ti.com/lit/ds/symlink/sn74as74a.pdf; ComponentLink3Description: Package Specification; ComponentLink3URL: http://www.ti.com/lit/ml/mpds177g/mpds177g.pdf
footprint D0014A_N (SOIC, 14-Leads, Body 8.75x4mm, Pitch 1.27mm, IPC Medium Density)
footprint D0014A_M (SOIC, 14-Leads, Body 8.75x4mm, Pitch 1.27mm, IPC Low Density)
footprint D0014A_L (SOIC, 14-Leads, Body 8.75x4mm, Pitch 1.27mm, IPC High Density)
part A pins: 1 1~{CLR} (in), 2 1D (in), 3 1CLK (in), 4 1~{PRE} (in), 5 1Q (out), 6 1Q (out)
part B pins: 8 2Q (out), 9 2Q (out), 10 2~{PRE} (in), 11 2CLK (in), 12 2D (in), 13 2~{CLR} (in)
part C pins: 7 GND (power), 14 VCC (power)
part A text: PRE; CLR
part B text: PRE; CLR

## SN74AS74ADR
designator U?
Dual Positive-Edge-Triggered D-Type Flip-Flops With Preset And Clear, D0014A, LARGE T&R; Generic Part Number: SN74AS74A; Manufacturer: Texas Instruments; PartNumber: SN74AS74ADR; VCC(Min)(V): 4.5; VCC(Max)(V): 5.5; Output Type: TTL; Output: 3S; ICC @ Nom Voltage(Max)(mA): 16; Bits(#): 2; F @ Nom Voltage(Max)(Mhz): 125; Rating: Catalog; Technology Family: AS; Voltage(Nom)(V): 5; Schmitt Trigger: No; Output Drive (IOL/IOH)(Max)(mA): 20/-2; Output Logic: Inverted,Non-inverted; tpd @ Nom Voltage(Max)(ns): 9; DatasheetVersion: SDAS143C; PackageReference: D0014A; Supplier 1: Digi-Key; Supplier Part Number 1: 296-29739-2-ND; Supplier 2: Digi-Key; Supplier Part Number 2: 296-29739-1-ND; Supplier 3: Digi-Key; Supplier Part Number 3: 296-29739-6-ND; Supplier 4: Newark; Supplier Part Number 4: 76C2696; Supplier 5: Mouser; Supplier Part Number 5: 595-SN74AS74ADR; Input Type: TTL; Operating Temperature Range(C): 0 to 70; 3-State Output: No; Code_JEDEC: MS-012; ComponentLink1Description: Manufacturer URL; ComponentLink1URL: http://www.ti.com/; ComponentLink2Description: Datasheet; ComponentLink2URL: http://www.ti.com/lit/ds/symlink/sn74as74a.pdf; ComponentLink3Description: Package Specification; ComponentLink3URL: http://www.ti.com/lit/ml/mpds177g/mpds177g.pdf
footprint D0014A_N (SOIC, 14-Leads, Body 8.75x4mm, Pitch 1.27mm, IPC Medium Density)
footprint D0014A_M (SOIC, 14-Leads, Body 8.75x4mm, Pitch 1.27mm, IPC Low Density)
footprint D0014A_L (SOIC, 14-Leads, Body 8.75x4mm, Pitch 1.27mm, IPC High Density)
part A pins: 1 1~{CLR} (in), 2 1D (in), 3 1CLK (in), 4 1~{PRE} (in), 5 1Q (out), 6 1Q (out)
part B pins: 8 2Q (out), 9 2Q (out), 10 2~{PRE} (in), 11 2CLK (in), 12 2D (in), 13 2~{CLR} (in)
part C pins: 7 GND (power), 14 VCC (power)
part A text: PRE; CLR
part B text: PRE; CLR

## SN74AS74AN
designator U?
Dual Positive-Edge-Triggered D-Type Flip-Flops With Preset And Clear, N0014A, TUBE; Generic Part Number: SN74AS74A; Manufacturer: Texas Instruments; PartNumber: SN74AS74AN; VCC(Min)(V): 4.5; VCC(Max)(V): 5.5; Output Type: TTL; Output: 3S; ICC @ Nom Voltage(Max)(mA): 16; Bits(#): 2; F @ Nom Voltage(Max)(Mhz): 125; Rating: Catalog; Technology Family: AS; Voltage(Nom)(V): 5; Schmitt Trigger: No; Output Drive (IOL/IOH)(Max)(mA): 20/-2; Output Logic: Inverted,Non-inverted; tpd @ Nom Voltage(Max)(ns): 9; DatasheetVersion: SDAS143C; PackageReference: N0014A; Supplier 1: Digi-Key; Supplier Part Number 1: 296-1525-5-ND; Supplier 2: Newark; Supplier Part Number 2: 67K1058; Supplier 3: Mouser; Supplier Part Number 3: 595-SN74AS74AN; Input Type: TTL; Operating Temperature Range(C): 0 to 70; 3-State Output: No; Code_JEDEC: MS-001; ComponentLink1Description: Manufacturer URL; ComponentLink1URL: http://www.ti.com/; ComponentLink2Description: Datasheet; ComponentLink2URL: http://www.ti.com/lit/ds/symlink/sn74as74a.pdf; ComponentLink3Description: Package Specification; ComponentLink3URL: http://www.ti.com/lit/ml/mpdi002c/mpdi002c.pdf
footprint N0014A (DIP, 14-Leads, Body 19.7x6.6mm, Pitch 2.54mm)
part A pins: 1 1~{CLR} (in), 2 1D (in), 3 1CLK (in), 4 1~{PRE} (in), 5 1Q (out), 6 1Q (out)
part B pins: 8 2Q (out), 9 2Q (out), 10 2~{PRE} (in), 11 2CLK (in), 12 2D (in), 13 2~{CLR} (in)
part C pins: 7 GND (power), 14 VCC (power)
part A text: PRE; CLR
part B text: PRE; CLR

## SN74AS74ANSR
designator U?
Dual Positive-Edge-Triggered D-Type Flip-Flops With Preset And Clear, NS0014A, LARGE T&R; Generic Part Number: SN74AS74A; Manufacturer: Texas Instruments; PartNumber: SN74AS74ANSR; VCC(Min)(V): 4.5; VCC(Max)(V): 5.5; Output Type: TTL; Output: 3S; ICC @ Nom Voltage(Max)(mA): 16; Bits(#): 2; F @ Nom Voltage(Max)(Mhz): 125; Rating: Catalog; Technology Family: AS; Voltage(Nom)(V): 5; Schmitt Trigger: No; Output Drive (IOL/IOH)(Max)(mA): 20/-2; Output Logic: Inverted,Non-inverted; tpd @ Nom Voltage(Max)(ns): 9; DatasheetVersion: SDAS143C; PackageReference: NS0014A; Supplier 1: Digi-Key; Supplier Part Number 1: 296-29187-2-ND; Supplier 2: Digi-Key; Supplier Part Number 2: 296-29187-1-ND; Supplier 3: Digi-Key; Supplier Part Number 3: 296-29187-6-ND; Supplier 4: Mouser; Supplier Part Number 4: 595-SN74AS74ANSR; Input Type: TTL; Operating Temperature Range(C): 0 to 70; 3-State Output: No; ComponentLink1Description: Manufacturer URL; ComponentLink1URL: http://www.ti.com/; ComponentLink2Description: Datasheet; ComponentLink2URL: http://www.ti.com/lit/ds/symlink/sn74as74a.pdf; ComponentLink3Description: Package Specification; ComponentLink3URL: http://www.ti.com/lit/ml/msop002a/msop002a.pdf
footprint NS0014A_N (SOIC,14-Leads,Body 10.5x5.6mm,Pitch 1.27mm,IPC Medium Density)
footprint NS0014A_M (SOIC,14-Leads,Body 10.5x5.6mm,Pitch 1.27mm,IPC Low Density)
footprint NS0014A_L (SOIC,14-Leads,Body 10.5x5.6mm,Pitch 0.4mm,IPC High Density)
part A pins: 1 1~{CLR} (in), 2 1D (in), 3 1CLK (in), 4 1~{PRE} (in), 5 1Q (out), 6 1Q (out)
part B pins: 8 2Q (out), 9 2Q (out), 10 2~{PRE} (in), 11 2CLK (in), 12 2D (in), 13 2~{CLR} (in)
part C pins: 7 GND (power), 14 VCC (power)
part A text: PRE; CLR
part B text: PRE; CLR

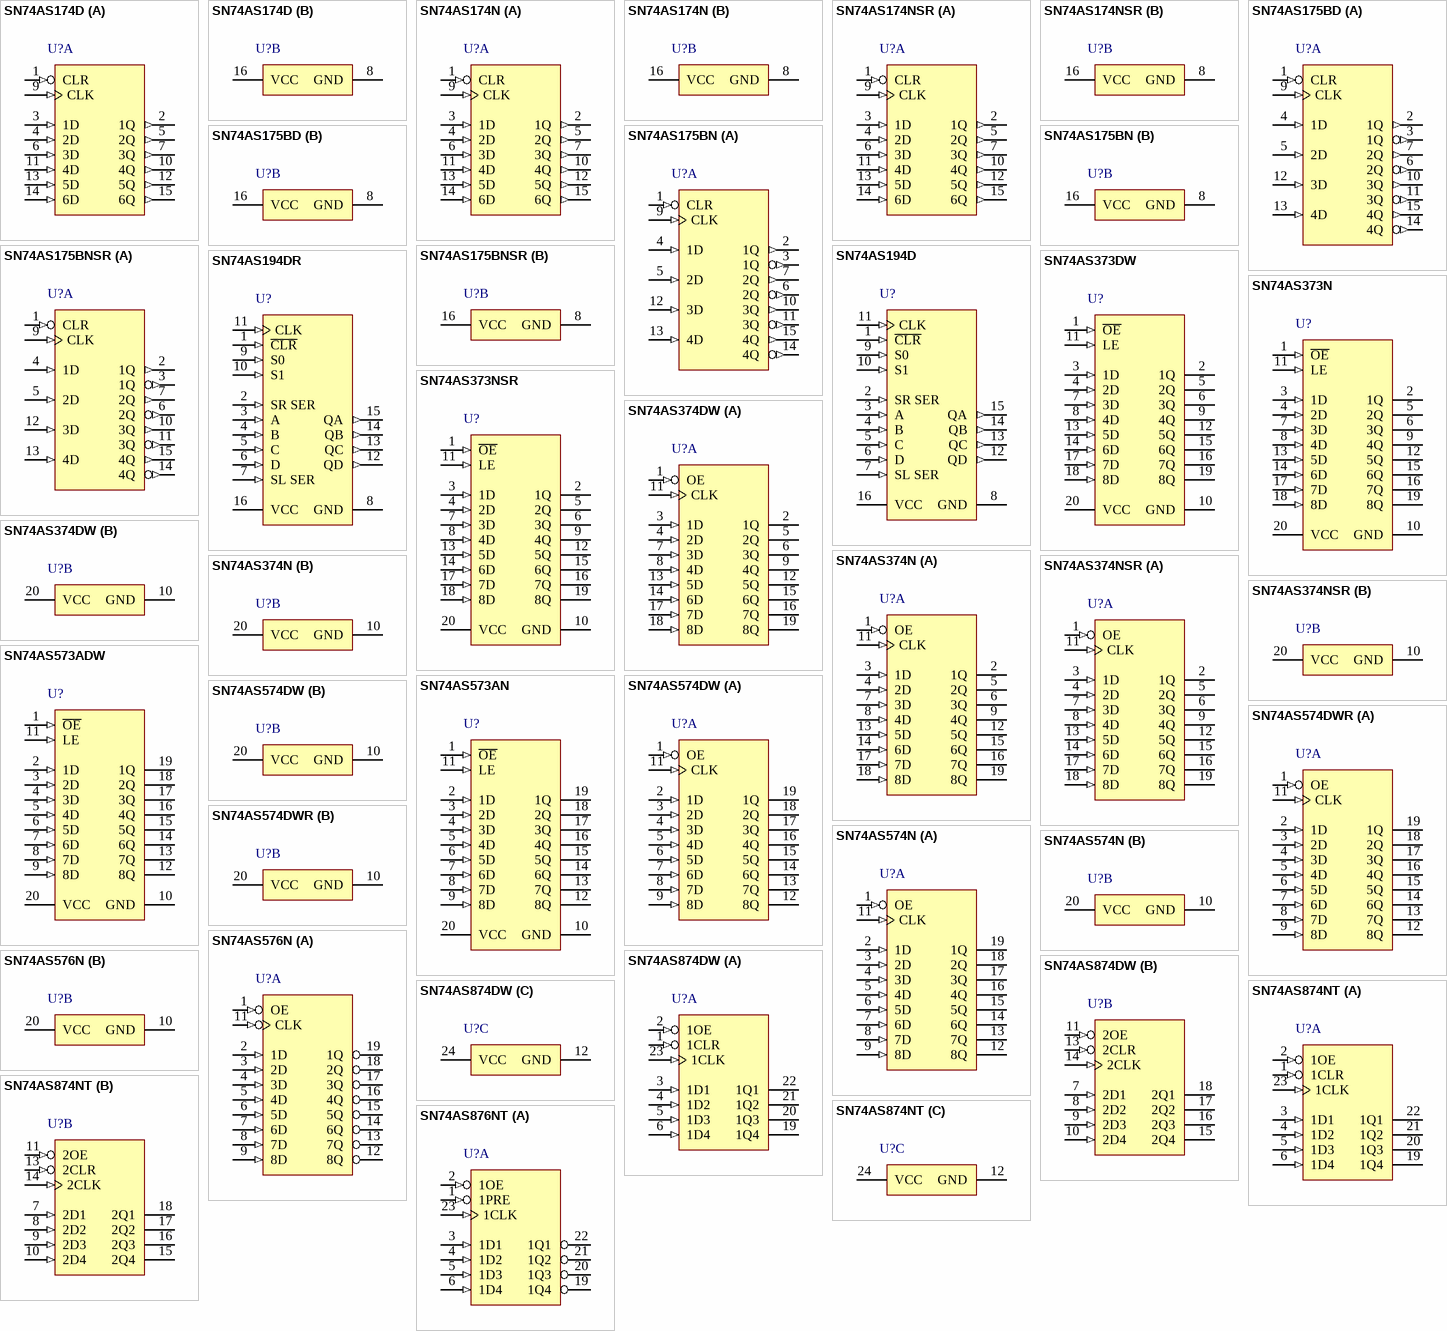
[diagram p82: symbols SN74AS174D to SN74AS876NT]

## SN74AS174D
designator U?
Hex D-Type Positive-Edge-Triggered Flip-Flops With Clear, D0016A, TUBE; Generic Part Number: SN74AS174; Manufacturer: Texas Instruments; PartNumber: SN74AS174D; VCC(Min)(V): 4.5; VCC(Max)(V): 5.5; Output Type: TTL; Output: 2S; ICC @ Nom Voltage(Max)(mA): 45; Bits(#): 6; F @ Nom Voltage(Max)(Mhz): 125; Rating: Catalog; Technology Family: AS; Voltage(Nom)(V): 5; Schmitt Trigger: No; Output Drive (IOL/IOH)(Max)(mA): 20/-2; Output Logic: Inverted,Non-inverted; tpd @ Nom Voltage(Max)(ns): 10; DatasheetVersion: SDAS207E; PackageReference: D0016A; Supplier 1: Digi-Key; Supplier Part Number 1: SN74AS174D-ND; Supplier 2: Mouser; Supplier Part Number 2: 595-SN74AS174D; Input Type: TTL; Operating Temperature Range(C): 0 to 70; 3-State Output: No; Code_JEDEC: MS-012 variation AC; ComponentLink1Description: Manufacturer URL; ComponentLink1URL: http://www.ti.com/; ComponentLink2Description: Datasheet; ComponentLink2URL: http://www.ti.com/lit/ds/symlink/sn74as174.pdf; ComponentLink3Description: Package Specification; ComponentLink3URL: http://www.ti.com/lit/ml/mpds178g/mpds178g.pdf
footprint D0016A_N (SOIC, 16-Leads, Body 10x4mm, Pitch 1.27mm, IPC Medium Density)
footprint D0016A_M (SOIC, 16-Leads, Body 10x4mm, Pitch 1.27mm, IPC Low Density)
footprint D0016A_L (SOIC, 16-Leads, Body 10x4mm, Pitch 1.27mm, IPC High Density)
part A pins: 1 CLR (in), 2 1Q (out), 3 1D (in), 4 2D (in), 5 2Q (out), 6 3D (in), 7 3Q (out), 9 CLK (in), 10 4Q (out), 11 4D (in), 12 5Q (out), 13 5D (in), 14 6D (in), 15 6Q (out)
part B pins: 8 GND (power), 16 VCC (power)

## SN74AS174N
designator U?
Hex D-Type Positive-Edge-Triggered Flip-Flops With Clear, N0016A, TUBE; Generic Part Number: SN74AS174; Manufacturer: Texas Instruments; PartNumber: SN74AS174N; VCC(Min)(V): 4.5; VCC(Max)(V): 5.5; Output Type: TTL; Output: 2S; ICC @ Nom Voltage(Max)(mA): 45; Bits(#): 6; F @ Nom Voltage(Max)(Mhz): 125; Rating: Catalog; Technology Family: AS; Voltage(Nom)(V): 5; Schmitt Trigger: No; Output Drive (IOL/IOH)(Max)(mA): 20/-2; Output Logic: Inverted,Non-inverted; tpd @ Nom Voltage(Max)(ns): 10; DatasheetVersion: SDAS207E; PackageReference: N0016A; Supplier 1: Digi-Key; Supplier Part Number 1: SN74AS174N-ND; Supplier 2: Mouser; Supplier Part Number 2: 595-SN74AS174N; Input Type: TTL; Operating Temperature Range(C): 0 to 70; 3-State Output: No; Code_JEDEC: MS-001; ComponentLink1Description: Manufacturer URL; ComponentLink1URL: http://www.ti.com/; ComponentLink2Description: Datasheet; ComponentLink2URL: http://www.ti.com/lit/ds/symlink/sn74as174.pdf; ComponentLink3Description: Package Specification; ComponentLink3URL: http://www.ti.com/lit/ml/mpdi002c/mpdi002c.pdf
footprint N0016A (DIP, 16-Leads, Body 19.7x6.6mm, Pitch 2.54mm)
part A pins: 1 CLR (in), 2 1Q (out), 3 1D (in), 4 2D (in), 5 2Q (out), 6 3D (in), 7 3Q (out), 9 CLK (in), 10 4Q (out), 11 4D (in), 12 5Q (out), 13 5D (in), 14 6D (in), 15 6Q (out)
part B pins: 8 GND (power), 16 VCC (power)

## SN74AS174NSR
designator U?
Hex D-Type Positive-Edge-Triggered Flip-Flops With Clear, NS0016A, LARGE T&R; Generic Part Number: SN74AS174; Manufacturer: Texas Instruments; PartNumber: SN74AS174NSR; VCC(Min)(V): 4.5; VCC(Max)(V): 5.5; Output Type: TTL; Output: 2S; ICC @ Nom Voltage(Max)(mA): 45; Bits(#): 6; F @ Nom Voltage(Max)(Mhz): 125; Rating: Catalog; Technology Family: AS; Voltage(Nom)(V): 5; Schmitt Trigger: No; Output Drive (IOL/IOH)(Max)(mA): 20/-2; Output Logic: Inverted,Non-inverted; tpd @ Nom Voltage(Max)(ns): 10; DatasheetVersion: SDAS207E; PackageReference: NS0016A; Supplier 1: Digi-Key; Supplier Part Number 1: 296-28501-2-ND; Supplier 2: Digi-Key; Supplier Part Number 2: 296-28501-1-ND; Supplier 3: Digi-Key; Supplier Part Number 3: 296-28501-6-ND; Supplier 4: Mouser; Supplier Part Number 4: 595-SN74AS174NSR; Input Type: TTL; Operating Temperature Range(C): 0 to 70; 3-State Output: No; ComponentLink1Description: Manufacturer URL; ComponentLink1URL: http://www.ti.com/; ComponentLink2Description: Datasheet; ComponentLink2URL: http://www.ti.com/lit/ds/symlink/sn74as174.pdf; ComponentLink3Description: Package Specification; ComponentLink3URL: http://www.ti.com/lit/ml/msop002a/msop002a.pdf
footprint NS0016A_N (SOIC,16-Leads,Body 10.5x5.6mm,Pitch 1.27mm,IPC Medium Density)
footprint NS0016A_M (SOIC,16-Leads,Body 10.5x5.6mm,Pitch 1.27mm,IPC Low Density)
footprint NS0016A_L (SOIC,16-Leads,Body 10.5x5.6mm,Pitch 1.27mm,IPC High Density)
part A pins: 1 CLR (in), 2 1Q (out), 3 1D (in), 4 2D (in), 5 2Q (out), 6 3D (in), 7 3Q (out), 9 CLK (in), 10 4Q (out), 11 4D (in), 12 5Q (out), 13 5D (in), 14 6D (in), 15 6Q (out)
part B pins: 8 GND (power), 16 VCC (power)

## SN74AS175BD
designator U?
Quadruple D-Type Positive-Edge-Triggered Flip-Flops With Clear, D0016A, TUBE; Generic Part Number: SN74AS175B; Manufacturer: Texas Instruments; PartNumber: SN74AS175BD; VCC(Min)(V): 4.5; VCC(Max)(V): 5.5; Output Type: TTL; Output: 2S; ICC @ Nom Voltage(Max)(mA): 34; Bits(#): 4; F @ Nom Voltage(Max)(Mhz): 125; Rating: Catalog; Technology Family: AS; Voltage(Nom)(V): 5; Schmitt Trigger: No; Output Drive (IOL/IOH)(Max)(mA): 20/-2; Output Logic: Inverted,Non-inverted; tpd @ Nom Voltage(Max)(ns): 10; DatasheetVersion: SDAS207E; PackageReference: D0016A; Supplier 1: Digi-Key; Supplier Part Number 1: 296-33797-5-ND; Supplier 2: Mouser; Supplier Part Number 2: 595-SN74AS175BD; Input Type: TTL; Operating Temperature Range(C): 0 to 70; 3-State Output: No; Code_JEDEC: MS-012 variation AC; ComponentLink1Description: Manufacturer URL; ComponentLink1URL: http://www.ti.com/; ComponentLink2Description: Datasheet; ComponentLink2URL: http://www.ti.com/lit/ds/symlink/sn74as175b.pdf; ComponentLink3Description: Package Specification; ComponentLink3URL: http://www.ti.com/lit/ml/mpds178g/mpds178g.pdf
footprint D0016A_N (SOIC, 16-Leads, Body 10x4mm, Pitch 1.27mm, IPC Medium Density)
footprint D0016A_M (SOIC, 16-Leads, Body 10x4mm, Pitch 1.27mm, IPC Low Density)
footprint D0016A_L (SOIC, 16-Leads, Body 10x4mm, Pitch 1.27mm, IPC High Density)
part A pins: 1 CLR (in), 2 1Q (out), 3 1Q (out), 4 1D (in), 5 2D (in), 6 2Q (out), 7 2Q (out), 9 CLK (in), 10 3Q (out), 11 3Q (out), 12 3D (in), 13 4D (in), 14 4Q (out), 15 4Q (out)
part B pins: 8 GND (power), 16 VCC (power)

## SN74AS175BN
designator U?
Quadruple D-Type Positive-Edge-Triggered Flip-Flops With Clear, N0016A, TUBE; Generic Part Number: SN74AS175B; Manufacturer: Texas Instruments; PartNumber: SN74AS175BN; VCC(Min)(V): 4.5; VCC(Max)(V): 5.5; Output Type: TTL; Output: 2S; ICC @ Nom Voltage(Max)(mA): 34; Bits(#): 4; F @ Nom Voltage(Max)(Mhz): 125; Rating: Catalog; Technology Family: AS; Voltage(Nom)(V): 5; Schmitt Trigger: No; Output Drive (IOL/IOH)(Max)(mA): 20/-2; Output Logic: Inverted,Non-inverted; tpd @ Nom Voltage(Max)(ns): 10; DatasheetVersion: SDAS207E; PackageReference: N0016A; Supplier 1: Digi-Key; Supplier Part Number 1: 296-6340-5-ND; Supplier 2: Mouser; Supplier Part Number 2: 595-SN74AS175BN; Input Type: TTL; Operating Temperature Range(C): 0 to 70; 3-State Output: No; Code_JEDEC: MS-001; ComponentLink1Description: Manufacturer URL; ComponentLink1URL: http://www.ti.com/; ComponentLink2Description: Datasheet; ComponentLink2URL: http://www.ti.com/lit/ds/symlink/sn74as175b.pdf; ComponentLink3Description: Package Specification; ComponentLink3URL: http://www.ti.com/lit/ml/mpdi002c/mpdi002c.pdf
footprint N0016A (DIP, 16-Leads, Body 19.7x6.6mm, Pitch 2.54mm)
part A pins: 1 CLR (in), 2 1Q (out), 3 1Q (out), 4 1D (in), 5 2D (in), 6 2Q (out), 7 2Q (out), 9 CLK (in), 10 3Q (out), 11 3Q (out), 12 3D (in), 13 4D (in), 14 4Q (out), 15 4Q (out)
part B pins: 8 GND (power), 16 VCC (power)

## SN74AS175BNSR
designator U?
Quadruple D-Type Positive-Edge-Triggered Flip-Flops With Clear, NS0016A, LARGE T&R; Generic Part Number: SN74AS175B; Manufacturer: Texas Instruments; PartNumber: SN74AS175BNSR; VCC(Min)(V): 4.5; VCC(Max)(V): 5.5; Output Type: TTL; Output: 2S; ICC @ Nom Voltage(Max)(mA): 34; Bits(#): 4; F @ Nom Voltage(Max)(Mhz): 125; Rating: Catalog; Technology Family: AS; Voltage(Nom)(V): 5; Schmitt Trigger: No; Output Drive (IOL/IOH)(Max)(mA): 20/-2; Output Logic: Inverted,Non-inverted; tpd @ Nom Voltage(Max)(ns): 10; DatasheetVersion: SDAS207E; PackageReference: NS0016A; Supplier 1: Digi-Key; Supplier Part Number 1: 296-28502-2-ND; Supplier 2: Digi-Key; Supplier Part Number 2: 296-28502-1-ND; Supplier 3: Digi-Key; Supplier Part Number 3: 296-28502-6-ND; Supplier 4: Mouser; Supplier Part Number 4: 595-SN74AS175BNSR; Input Type: TTL; Operating Temperature Range(C): 0 to 70; 3-State Output: No; ComponentLink1Description: Manufacturer URL; ComponentLink1URL: http://www.ti.com/; ComponentLink2Description: Datasheet; ComponentLink2URL: http://www.ti.com/lit/ds/symlink/sn74as175b.pdf; ComponentLink3Description: Package Specification; ComponentLink3URL: http://www.ti.com/lit/ml/msop002a/msop002a.pdf
footprint NS0016A_N (SOIC,16-Leads,Body 10.5x5.6mm,Pitch 1.27mm,IPC Medium Density)
footprint NS0016A_M (SOIC,16-Leads,Body 10.5x5.6mm,Pitch 1.27mm,IPC Low Density)
footprint NS0016A_L (SOIC,16-Leads,Body 10.5x5.6mm,Pitch 1.27mm,IPC High Density)
part A pins: 1 CLR (in), 2 1Q (out), 3 1Q (out), 4 1D (in), 5 2D (in), 6 2Q (out), 7 2Q (out), 9 CLK (in), 10 3Q (out), 11 3Q (out), 12 3D (in), 13 4D (in), 14 4Q (out), 15 4Q (out)
part B pins: 8 GND (power), 16 VCC (power)

## SN74AS194D
designator U?
4-Bit Bidirectional Universal Shift Registers, D0016A, TUBE; Generic Part Number: SN74AS194; Manufacturer: Texas Instruments; PartNumber: SN74AS194D; Technology Family: AS; VCC(Min)(V): 4.5; VCC(Max)(V): 5.5; Voltage(Nom)(V): 5; F @ Nom Voltage(Max)(Mhz): 125; ICC @ Nom Voltage(Max)(mA): 53; tpd @ Nom Voltage(Max)(ns): 7; Output Drive (IOL/IOH)(Max)(mA): 20/-2; Input Type: TTL; 3-State Output: No; Rating: Catalog; Bits: 4; DatasheetVersion: SDAS212A; PackageReference: D0016A; Output Type: TTL; Operating Temperature Range(C): 0 to 70; Code_JEDEC: MS-012 variation AC; ComponentLink1Description: Manufacturer URL; ComponentLink1URL: http://www.ti.com/; ComponentLink2Description: Datasheet; ComponentLink2URL: http://www.ti.com/lit/ds/symlink/sn74as194.pdf; ComponentLink3Description: Package Specification; ComponentLink3URL: http://www.ti.com/lit/ml/mpds178g/mpds178g.pdf
footprint D0016A_N (SOIC, 16-Leads, Body 10x4mm, Pitch 1.27mm, IPC Medium Density)
footprint D0016A_M (SOIC, 16-Leads, Body 10x4mm, Pitch 1.27mm, IPC Low Density)
footprint D0016A_L (SOIC, 16-Leads, Body 10x4mm, Pitch 1.27mm, IPC High Density)
pins: 1 ~{CLR} (in), 2 SR SER (in), 3 A (in), 4 B (in), 5 C (in), 6 D (in), 7 SL SER (in), 8 GND (power), 9 S0 (in), 10 S1 (in), 11 CLK (in), 12 QD (out), 13 QC (out), 14 QB (out), 15 QA (out), 16 VCC (power)

## SN74AS194DR
designator U?
4-Bit Bidirectional Universal Shift Registers, D0016A, LARGE T&R; Generic Part Number: SN74AS194; Manufacturer: Texas Instruments; PartNumber: SN74AS194DR; Technology Family: AS; VCC(Min)(V): 4.5; VCC(Max)(V): 5.5; Voltage(Nom)(V): 5; F @ Nom Voltage(Max)(Mhz): 125; ICC @ Nom Voltage(Max)(mA): 53; tpd @ Nom Voltage(Max)(ns): 7; Output Drive (IOL/IOH)(Max)(mA): 20/-2; Input Type: TTL; 3-State Output: No; Rating: Catalog; Bits: 8; DatasheetVersion: SDAS212A; PackageReference: D0016A; Output Type: TTL; Operating Temperature Range(C): 0 to 70; Code_JEDEC: MS-012 variation AC; ComponentLink1Description: Manufacturer URL; ComponentLink1URL: http://www.ti.com/; ComponentLink2Description: Datasheet; ComponentLink2URL: http://www.ti.com/lit/ds/symlink/sn74as194.pdf; ComponentLink3Description: Package Specification; ComponentLink3URL: http://www.ti.com/lit/ml/mpds178g/mpds178g.pdf
footprint D0016A_N (SOIC, 16-Leads, Body 10x4mm, Pitch 1.27mm, IPC Medium Density)
footprint D0016A_M (SOIC, 16-Leads, Body 10x4mm, Pitch 1.27mm, IPC Low Density)
footprint D0016A_L (SOIC, 16-Leads, Body 10x4mm, Pitch 1.27mm, IPC High Density)
pins: 1 ~{CLR} (in), 2 SR SER (in), 3 A (in), 4 B (in), 5 C (in), 6 D (in), 7 SL SER (in), 8 GND (power), 9 S0 (in), 10 S1 (in), 11 CLK (in), 12 QD (out), 13 QC (out), 14 QB (out), 15 QA (out), 16 VCC (power)

## SN74AS373DW
designator U?
Octal D-Type Transparent Latches with 3-state Outputs, DW0020A, TUBE; Generic Part Number: SN74AS373; Manufacturer: Texas Instruments; PartNumber: SN74AS373DW; VCC(Min)(V): 4.5; VCC(Max)(V): 5.5; Output Type: TTL; Logic: True; Static Current: 87.5; ICC @ Nom Voltage(Max)(mA): 100; Bits(#): 8; F @ Nom Voltage(Max)(Mhz): 125; Rating: Catalog; Technology Family: AS; Voltage(Nom)(V): 5; Schmitt Trigger: No; Output Drive (IOL/IOH)(Max)(mA): 48/-15; Output Logic: Non-inverted; 3-State Output: Yes; tpd @ Nom Voltage(Max)(ns): 6; DatasheetVersion: SDAS083C; PackageReference: DW0020A; Supplier 1: Digi-Key; Supplier Part Number 1: SN74AS373DW-ND; Supplier 2: Farnell; Supplier Part Number 2: 1753576; Supplier 3: Mouser; Supplier Part Number 3: 595-SN74AS373DW; Input Type: TTL; Operating Temperature Range(C): 0 to 70; Code_JEDEC: MS-013; ComponentLink1Description: Manufacturer URL; ComponentLink1URL: http://www.ti.com/; ComponentLink2Description: Datasheet; ComponentLink2URL: http://www.ti.com/lit/ds/symlink/sn74as373.pdf; ComponentLink3Description: Package Specification; ComponentLink3URL: http://www.ti.com/lit/ml/mpds173a/mpds173a.pdf
footprint DW0020A_N (SOIC, 20-Leads, Body 13x7.6mm, Pitch 1.27mm, IPC Medium Density)
footprint DW0020A_M (SOIC, 20-Leads, Body 13x7.6mm, Pitch 1.27mm, IPC Low Density)
footprint DW0020A_L (SOIC, 20-Leads, Body 13x7.6mm, Pitch 1.27mm, IPC High Density)
pins: 1 ~{OE} (in) "Output Enable", 2 1Q (hiz) "1Q Output", 3 1D (in) "1D Input", 4 2D (in) "2D Input", 5 2Q (hiz) "2Q Output", 6 3Q (hiz) "3Q Output", 7 3D (in) "3D Input", 8 4D (in) "4D Input", 9 4Q (hiz) "4Q Output", 10 GND (power) "Ground Pin", 11 LE (in) "Latch Enable", 12 5Q (hiz) "5Q Output", 13 5D (in) "5D Input", 14 6D (in) "6D Input", 15 6Q (hiz) "6Q Output", 16 7Q (hiz) "7Q Output", 17 7D (in) "7D Input", 18 8D (in) "8D Input", 19 8Q (hiz) "8Q Output", 20 VCC (power) "Power Pin"

## SN74AS373N
designator U?
Octal D-Type Transparent Latches with 3-state Outputs, N0020A, TUBE; Generic Part Number: SN74AS373; Manufacturer: Texas Instruments; PartNumber: SN74AS373N; VCC(Min)(V): 4.5; VCC(Max)(V): 5.5; Output Type: TTL; Logic: True; Static Current: 87.5; ICC @ Nom Voltage(Max)(mA): 100; Bits(#): 8; F @ Nom Voltage(Max)(Mhz): 125; Rating: Catalog; Technology Family: AS; Voltage(Nom)(V): 5; Schmitt Trigger: No; Output Drive (IOL/IOH)(Max)(mA): 48/-15; Output Logic: Non-inverted; 3-State Output: Yes; tpd @ Nom Voltage(Max)(ns): 6; DatasheetVersion: SDAS083C; PackageReference: N0020A; Supplier 1: Digi-Key; Supplier Part Number 1: 296-6355-5-ND; Supplier 2: Farnell; Supplier Part Number 2: 1750117; Supplier 3: Newark; Supplier Part Number 3: 50R6184; Supplier 4: Mouser; Supplier Part Number 4: 595-SN74AS373N; Input Type: TTL; Operating Temperature Range(C): 0 to 70; Code_JEDEC: MS-001; ComponentLink1Description: Manufacturer URL; ComponentLink1URL: http://www.ti.com/; ComponentLink2Description: Datasheet; ComponentLink2URL: http://www.ti.com/lit/ds/symlink/sn74as373.pdf; ComponentLink3Description: Package Specification; ComponentLink3URL: http://www.ti.com/lit/ml/mpdi002c/mpdi002c.pdf
footprint N0020A (DIP, 20-Leads, Body 26.9x6.6mm, Pitch 2.54mm)
pins: 1 ~{OE} (in) "Output Enable", 2 1Q (hiz) "1Q Output", 3 1D (in) "1D Input", 4 2D (in) "2D Input", 5 2Q (hiz) "2Q Output", 6 3Q (hiz) "3Q Output", 7 3D (in) "3D Input", 8 4D (in) "4D Input", 9 4Q (hiz) "4Q Output", 10 GND (power) "Ground Pin", 11 LE (in) "Latch Enable", 12 5Q (hiz) "5Q Output", 13 5D (in) "5D Input", 14 6D (in) "6D Input", 15 6Q (hiz) "6Q Output", 16 7Q (hiz) "7Q Output", 17 7D (in) "7D Input", 18 8D (in) "8D Input", 19 8Q (hiz) "8Q Output", 20 VCC (power) "Power Pin"